# Altium schematic symbol library SkyWar.SchLib: 22 symbols
Pins are listed as number, name and electrical type; pins without a type are passive.

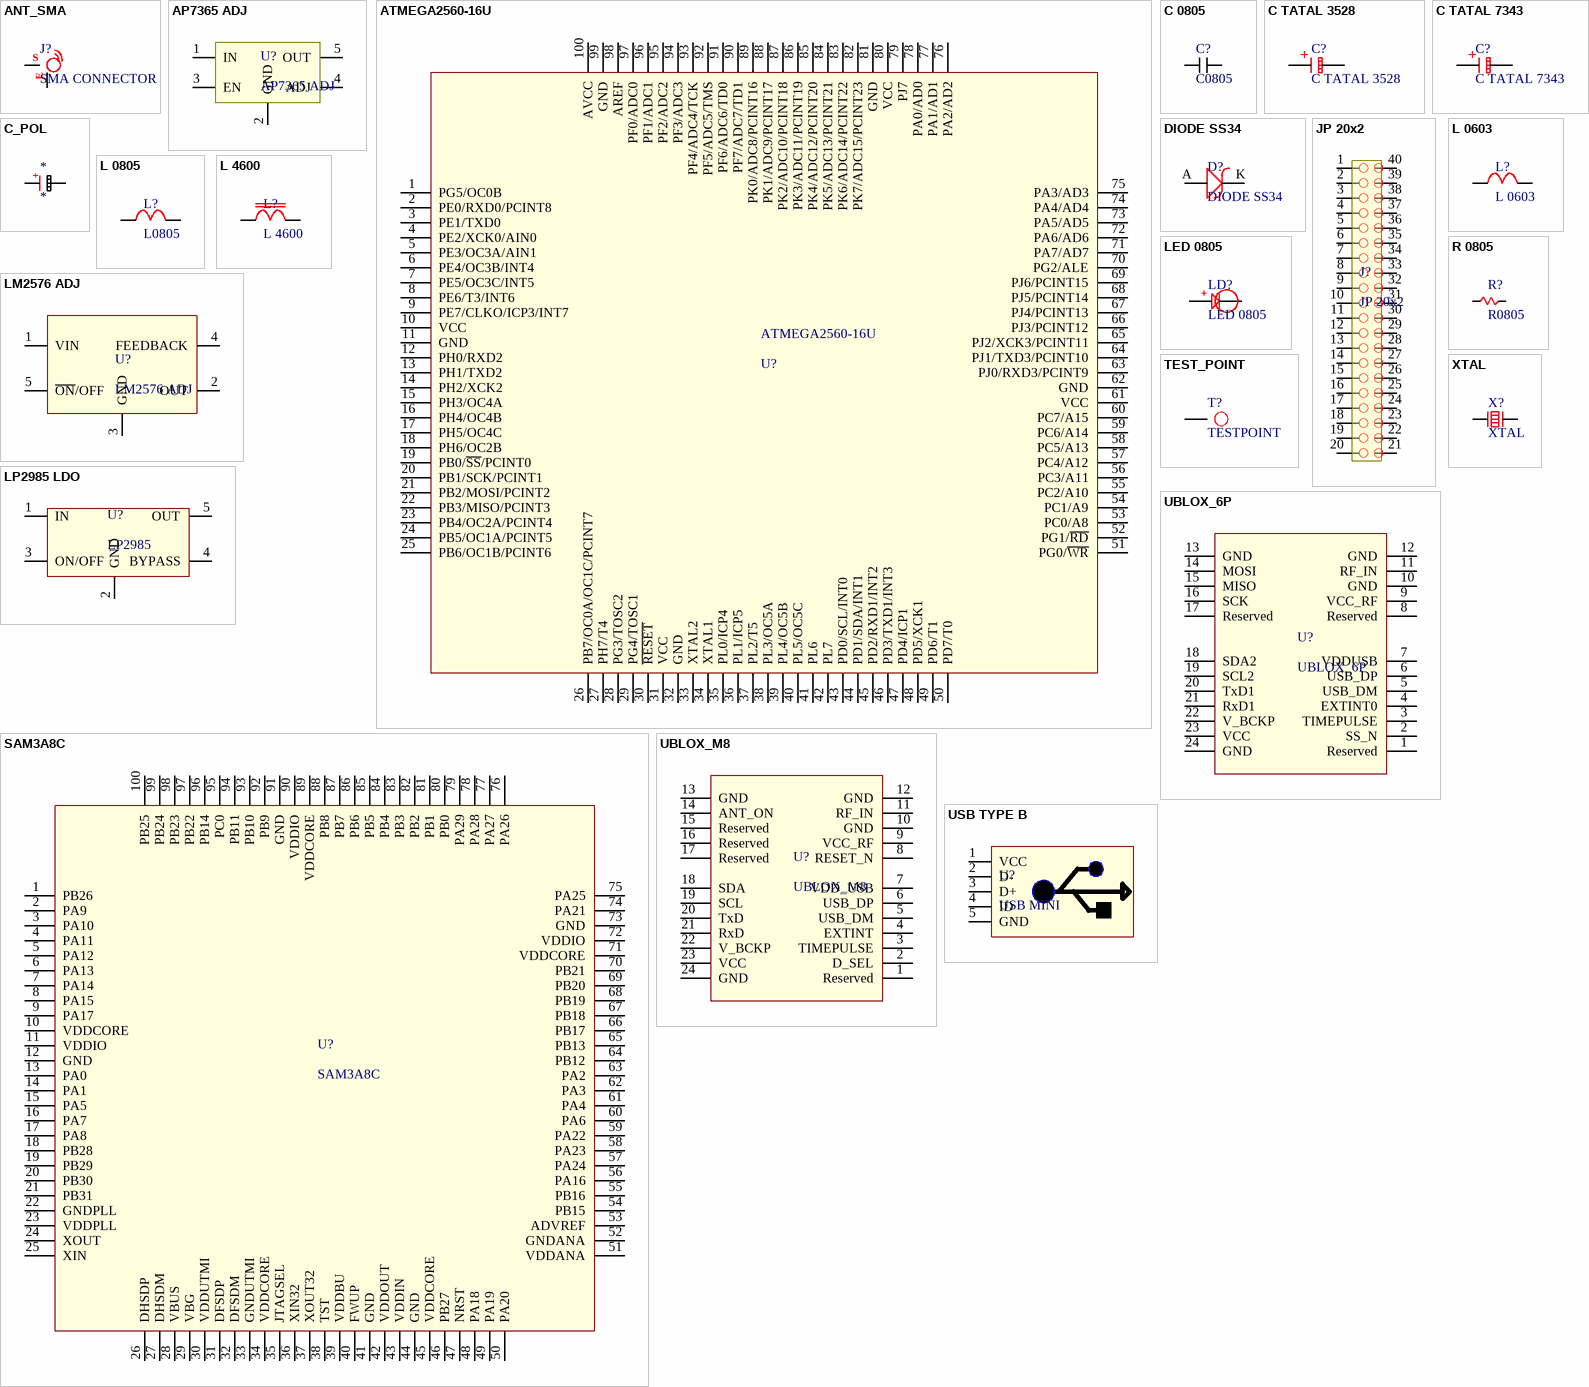
[diagram p0: symbols ANT_SMA to XTAL]

## ANT_SMA
designator J?, comment SMA CONNECTOR
footprint SMA_CONNECTOR
pins: 1 S, 2
text: E

## AP7365 ADJ
designator U?
footprint AP7365 ADJ (SOT23, 5-Leads, Body 2.95x2.75mm, Pitch 0.95mm, IPC Low Density)
pins: 1 IN, 2 GND, 3 EN, 4 ADJ, 5 OUT

## ATMEGA2560-16U
designator ATMEGA2560-16U, comment U?
ATMEGA2560-16U
footprint ATMEGA2560-16U (TSQFP, 100-Leads, Body 14.00x14.00mm, Pitch 0.50mm, IPC Low Density)
pins: 1 PG5/OC0B, 2 PE0/RXD0/PCINT8, 3 PE1/TXD0, 4 PE2/XCK0/AIN0, 5 PE3/OC3A/AIN1, 6 PE4/OC3B/INT4, 7 PE5/OC3C/INT5, 8 PE6/T3/INT6, 9 PE7/CLKO/ICP3/INT7, 10 VCC, 11 GND, 12 PH0/RXD2, 13 PH1/TXD2, 14 PH2/XCK2, 15 PH3/OC4A, 16 PH4/OC4B, 17 PH5/OC4C, 18 PH6/OC2B, 19 PB0/~{SS}/PCINT0, 20 PB1/SCK/PCINT1, 21 PB2/MOSI/PCINT2, 22 PB3/MISO/PCINT3, 23 PB4/OC2A/PCINT4, 24 PB5/OC1A/PCINT5, 25 PB6/OC1B/PCINT6, 26 PB7/OC0A/OC1C/PCINT7, 27 PH7/T4, 28 PG3/TOSC2, 29 PG4/TOSC1, 30 ~{RESET}, 31 VCC, 32 GND, 33 XTAL2, 34 XTAL1, 35 PL0/ICP4, 36 PL1/ICP5, 37 PL2/T5, 38 PL3/OC5A, 39 PL4/OC5B, 40 PL5/OC5C, 41 PL6, 42 PL7, 43 PD0/SCL/INT0, 44 PD1/SDA/INT1, 45 PD2/RXD1/INT2, 46 PD3/TXD1/INT3, 47 PD4/ICP1, 48 PD5/XCK1, 49 PD6/T1, 50 PD7/T0, 51 PG0/~{WR}, 52 PG1/~{RD}, 53 PC0/A8, 54 PC1/A9, 55 PC2/A10, 56 PC3/A11, 57 PC4/A12, 58 PC5/A13, 59 PC6/A14, 60 PC7/A15, 61 VCC, 62 GND, 63 PJ0/RXD3/PCINT9, 64 PJ1/TXD3/PCINT10, 65 PJ2/XCK3/PCINT11, 66 PJ3/PCINT12, 67 PJ4/PCINT13, 68 PJ5/PCINT14, 69 PJ6/PCINT15, 70 PG2/ALE, 71 PA7/AD7, 72 PA6/AD6, 73 PA5/AD5, 74 PA4/AD4, 75 PA3/AD3, 76 PA2/AD2, 77 PA1/AD1, 78 PA0/AD0, 79 PJ7, 80 VCC, 81 GND, 82 PK7/ADC15/PCINT23, 83 PK6/ADC14/PCINT22, 84 PK5/ADC13/PCINT21, 85 PK4/ADC12/PCINT20, 86 PK3/ADC11/PCINT19, 87 PK2/ADC10/PCINT18, 88 PK1/ADC9/PCINT17, 89 PK0/ADC8/PCINT16, 90 PF7/ADC7/TD1, 91 PF6/ADC6/TD0, 92 PF5/ADC5/TMS, 93 PF4/ADC4/TCK, 94 PF3/ADC3, 95 PF2/ADC2, 96 PF1/ADC1, 97 PF0/ADC0, 98 AREF, 99 GND, 100 AVCC

## C 0805
designator C?, comment C0805
footprint C 0805 (Chip Capacitor, 2-Leads, Body 2.00x1.20mm, IPC Low Density)
pins: 1, 2

## C TATAL 3528
designator C?
footprint C TATAL 3528 (Molded Capacitor, 2-Leads, Body 3.50x2.80mm, IPC Low Density)
pins: 1, 2
text: +

## C TATAL 7343
designator C?
footprint C TATAL 7343 (Molded Capacitor, 2-Leads, Body 7.30x4.30mm, IPC Low Density)
pins: 1, 2
text: +

## C_POL
designator *
pins: 1, 2
text: +

## DIODE SS34
designator D?
footprint DIODE SS34 (SODFL, 2-Leads, Body 5.90x7.94mm, IPC Low Density)
pins: A, K

## JP 20x2
designator J?
footprint JP 20x2
pins: 1 6, 2 7, 3 8, 4 9, 5 10, 6 11, 7 12, 8 13, 9 14, 10 15, 11 16, 12 17, 13 18, 14 19, 15 20, 16 21, 17 22, 18 23, 19 24, 20 25, 21 26, 22 27, 23 28, 24 29, 25 30, 26 31, 27 32, 28 33, 29 34, 30 35, 31 36, 32 37, 33 38, 34 39, 35 40, 36 41, 37 42, 38 43, 39 44, 40 45

## L 0603
designator L?
footprint L 0603 (Chip Inductor, 2-Leads, Body 1.60x0.80mm, IPC Low Density)
pins: 1, 2

## L 0805
designator L?, comment L0805
footprint L 0805 (Chip Inductor, 2-Leads, Body 2.00x1.20mm, IPC Low Density)
pins: 1, 2

## L 4600
designator L?
footprint L 4600 (Precision Wire Wound Inductor, 2-Leads, Body 7.30x7.30mm, IPC Low Density)
pins: 1, 2

## LED 0805
designator LD?
footprint LED 0805 (Chip Diode, 2-Leads, Body 2.00x1.20mm, IPC Low Density)
pins: 1 3, 2 4
text: +

## LM2576 ADJ
designator U?
footprint LM2576 ADJ
pins: 1 VIN, 2 OUT, 3 GND, 4 FEEDBACK, 5 ~{ON}/OFF

## LP2985 LDO
designator U?, comment LP2985
footprint LP2985 (SOT23, 5-Leads, Body 2.90x2.80mm, Pitch 0.95mm, IPC Low Density)
pins: 1 IN, 2 GND, 3 ON/OFF, 4 BYPASS, 5 OUT

## R 0805
designator R?, comment R0805
footprint R 0805 (Chip Capacitor, 2-Leads, Body 2.00x1.20mm, IPC Low Density)
pins: 1 0, 2 1

## SAM3A8C
designator U?
footprint SAM3A8C (TSQFP, 100-Leads, Body 14.00x14.00mm, Pitch 0.50mm, IPC Low Density)
pins: 1 PB26, 2 PA9, 3 PA10, 4 PA11, 5 PA12, 6 PA13, 7 PA14, 8 PA15, 9 PA17, 10 VDDCORE, 11 VDDIO, 12 GND, 13 PA0, 14 PA1, 15 PA5, 16 PA7, 17 PA8, 18 PB28, 19 PB29, 20 PB30, 21 PB31, 22 GNDPLL, 23 VDDPLL, 24 XOUT, 25 XIN, 26 DHSDP, 27 DHSDM, 28 VBUS, 29 VBG, 30 VDDUTMI, 31 DFSDP, 32 DFSDM, 33 GNDUTMI, 34 VDDCORE, 35 JTAGSEL, 36 XIN32, 37 XOUT32, 38 TST, 39 VDDBU, 40 FWUP, 41 GND, 42 VDDOUT, 43 VDDIN, 44 GND, 45 VDDCORE, 46 PB27, 47 NRST, 48 PA18, 49 PA19, 50 PA20, 51 VDDANA, 52 GNDANA, 53 ADVREF, 54 PB15, 55 PB16, 56 PA16, 57 PA24, 58 PA23, 59 PA22, 60 PA6, 61 PA4, 62 PA3, 63 PA2, 64 PB12, 65 PB13, 66 PB17, 67 PB18, 68 PB19, 69 PB20, 70 PB21, 71 VDDCORE, 72 VDDIO, 73 GND, 74 PA21, 75 PA25, 76 PA26, 77 PA27, 78 PA28, 79 PA29, 80 PB0, 81 PB1, 82 PB2, 83 PB3, 84 PB4, 85 PB5, 86 PB6, 87 PB7, 88 PB8, 89 VDDCORE, 90 VDDIO, 91 GND, 92 PB9, 93 PB10, 94 PB11, 95 PC0, 96 PB14, 97 PB22, 98 PB23, 99 PB24, 100 PB25

## TEST_POINT
designator T?, comment TESTPOINT
footprint TEST_POINT
pins: 1

## UBLOX_6P
designator U?
UBLOX_NEO_6P
footprint UBLOX_6P
pins: 1 Reserved, 2 SS_N, 3 TIMEPULSE, 4 EXTINT0, 5 USB_DM, 6 USB_DP, 7 VDDUSB, 8 Reserved, 9 VCC_RF, 10 GND, 11 RF_IN, 12 GND, 13 GND, 14 MOSI, 15 MISO, 16 SCK, 17 Reserved, 18 SDA2, 19 SCL2, 20 TxD1, 21 RxD1, 22 V_BCKP, 23 VCC, 24 GND

## UBLOX_M8
designator U?
footprint UBLOX_M8
pins: 1 Reserved, 2 D_SEL, 3 TIMEPULSE, 4 EXTINT, 5 USB_DM, 6 USB_DP, 7 VDD_USB, 8 RESET_N, 9 VCC_RF, 10 GND, 11 RF_IN, 12 GND, 13 GND, 14 ANT_ON, 15 Reserved, 16 Reserved, 17 Reserved, 18 SDA, 19 SCL, 20 TxD, 21 RxD, 22 V_BCKP, 23 VCC, 24 GND

## USB TYPE B
designator U?, comment USB MINI
footprint USB MINI DIP
pins: 1 VCC, 2 D-, 3 D+, 4 ID, 5 GND

## XTAL
designator X?
footprint XTAL (SODFL, 2-Leads, Body 4.70x12.70mm, IPC Low Density)
pins: 1 5, 2 6